# EAGLE library part PCF8591 (library Elecrow_IC)
8-bit A/D and D/A converter http://www.aurel32.net/elec/pcf8591.pdf
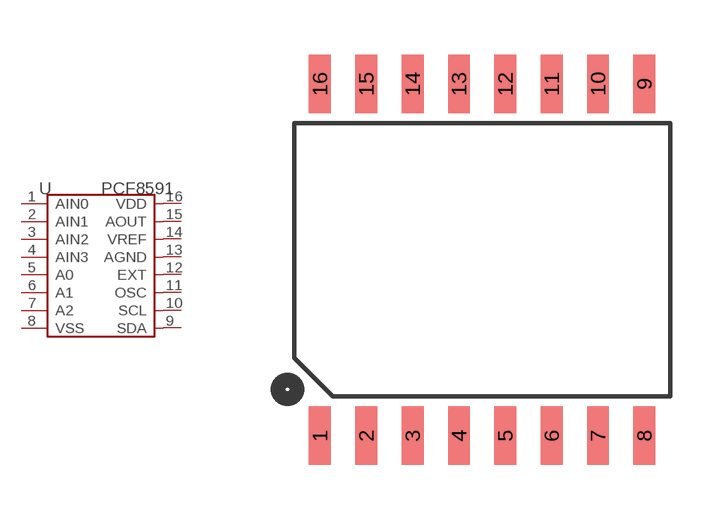
[diagram p12: symbol with the pads of SO16-10.325; footprint SO16-10.325]

Designator prefix U

## PCF8591T  [SO16-10.325]
1  AIN0
2  AIN1
3  AIN2
4  AIN3
5  A0
6  A1
7  A2
8  VSS  sup
9  SDA
10  SCL  in
11  OSC
12  EXT  in
13  AGND  sup
14  VREF  in
15  AOUT  out
16  VDD  sup

## Footprint SO16-10.325 (pad centres in mm)
smd 0.6 x 1.6: 1 -4.445,-4.825; 2 -3.175,-4.825; 3 -1.905,-4.825; 4 -0.635,-4.825; 5 0.635,-4.825; 6 1.905,-4.825; 7 3.175,-4.825; 8 4.445,-4.825; 9 4.445,4.825; 10 3.175,4.825; 11 1.905,4.825; 12 0.635,4.825; 13 -0.635,4.825; 14 -1.905,4.825; 15 -3.175,4.825; 16 -4.445,4.825